# Altium schematic symbol library twopin.SchLib: 1 symbol
Pins are listed as number, name and electrical type; pins without a type are passive.

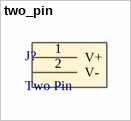
[diagram p0: symbol two_pin]

## two_pin
designator J?, comment Two Pin
footprint TWO_PIN
pins: 1 V+, 2 V-